# Altium schematic symbol library JFET,25V,MMBF5486,SOT23.Schlib: 1 symbol
Pins are listed as number, name and electrical type; pins without a type are passive.

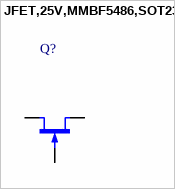
[diagram p0: symbol JFET,25V,MMBF5486,SOT23]

## JFET,25V,MMBF5486,SOT23
designator Q?
footprint ONSEMI_SOT23 (Footprint not found)
pins: 1 D, 2 S, 3 G